# Altium schematic symbol library Logic_RF_Component_Symbols.SchLib: 6 symbols
Pins are listed as number, name and electrical type; pins without a type are passive.

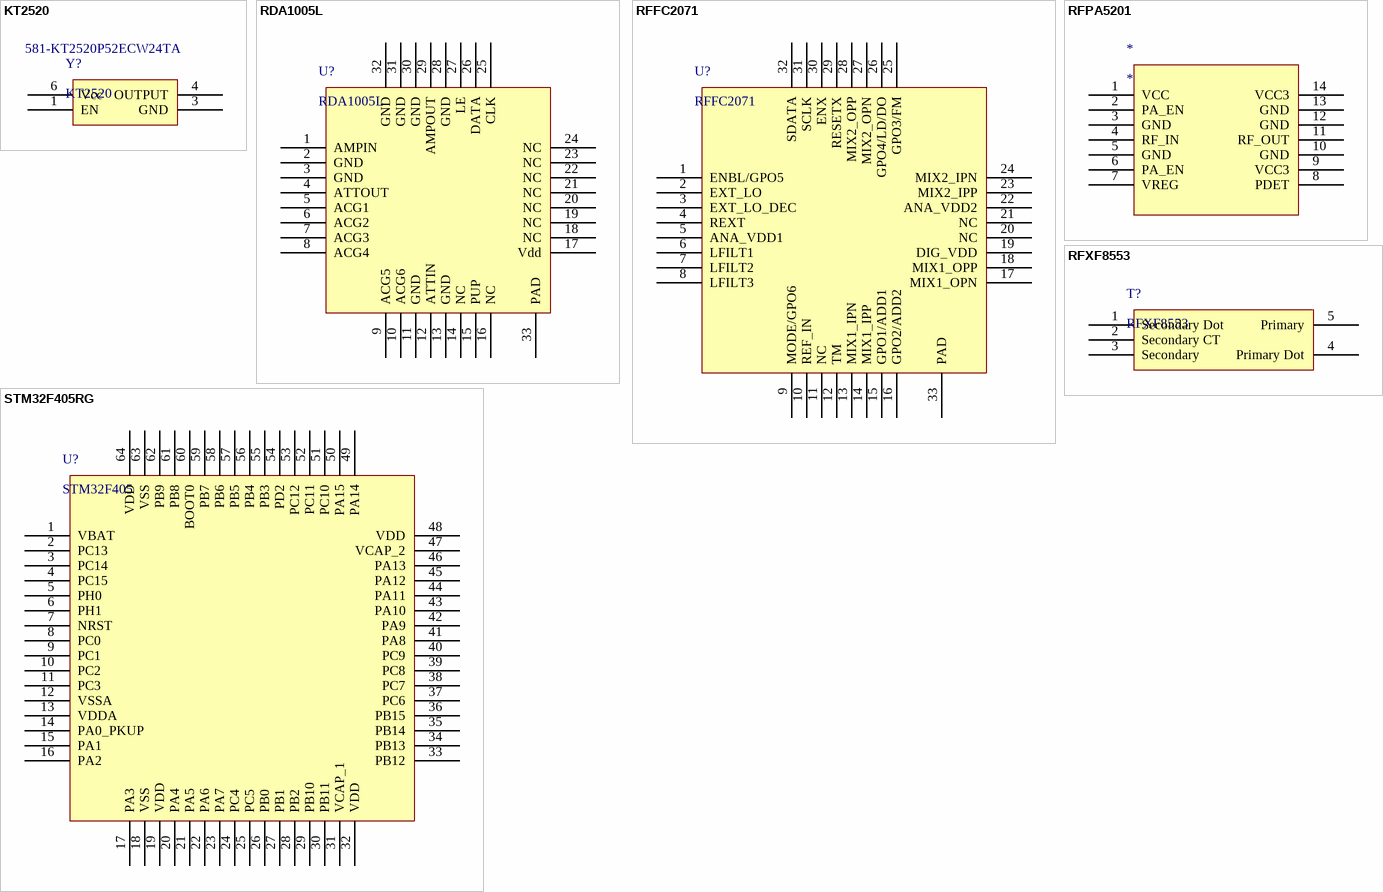
[diagram p0: symbols KT2520 to STM32F405RG]

## KT2520
designator Y?  Supplier Part Number 1: 581-KT2520P52ECW24TA
Temperature-Compensated Crystal Oscillator (TCXO) KT2520; Supplier 1: Mouser
footprint KT2520
pins: 1 EN, 3 GND, 4 OUTPUT, 6 Vcc

## RDA1005L
designator U?
DIGITAL CONTROLLED VARIABLE GAIN  AMPLIFIER 50 MHZ TO 4000 MHZ, 6 BIT
footprint QFN50P500X500-32WAL (QFN, 32-Leads, Body 5x5mm, Pitch 0.5mm, IPC High Density)
footprint QFN50P500X500-32WAN (QFN, 32-Leads, Body 5x5mm, Pitch 0.5mm, IPC Medium Density)
footprint QFN50P500X500-32WAM (QFN, 32-Leads, Body 5x5mm, Pitch 0.5mm, IPC Low Density)
pins: 1 AMPIN, 2 GND, 3 GND, 4 ATTOUT, 5 ACG1, 6 ACG2, 7 ACG3, 8 ACG4, 9 ACG5, 10 ACG6, 11 GND, 12 ATTIN, 13 GND, 14 NC, 15 PUP, 16 NC, 17 Vdd, 18 NC, 19 NC, 20 NC, 21 NC, 22 NC, 23 NC, 24 NC, 25 CLK, 26 DATA, 27 LE, 28 GND, 29 AMPOUT, 30 GND, 31 GND, 32 GND, 33 PAD

## RFFC2071
designator U?
2.7GHz RF SYNTHESIZER/VCO WITH INTEGRATED RF MIXER
footprint QFN50P500X500-32WAL (QFN, 32-Leads, Body 5x5mm, Pitch 0.5mm, IPC High Density)
footprint QFN50P500X500-32WAM (QFN, 32-Leads, Body 5x5mm, Pitch 0.5mm, IPC Low Density)
footprint QFN50P500X500-32WAN (QFN, 32-Leads, Body 5x5mm, Pitch 0.5mm, IPC Medium Density)
pins: 1 ENBL/GPO5, 2 EXT_LO, 3 EXT_LO_DEC, 4 REXT, 5 ANA_VDD1, 6 LFILT1, 7 LFILT2, 8 LFILT3, 9 MODE/GPO6, 10 REF_IN, 11 NC, 12 TM, 13 MIX1_IPN, 14 MIX1_IPP, 15 GPO1/ADD1, 16 GPO2/ADD2, 17 MIX1_OPN, 18 MIX1_OPP, 19 DIG_VDD, 20 NC, 21 NC, 22 ANA_VDD2, 23 MIX2_IPP, 24 MIX2_IPN, 25 GPO3/FM, 26 GPO4/LD/DO, 27 MIX2_OPN, 28 MIX2_OPP, 29 RESETX, 30 ENX, 31 SCLK, 32 SDATA, 33 PAD

## RFPA5201
designator *
WiFi Power Amplifier Module
footprint MCM14
pins: 1 VCC, 2 PA_EN, 3 GND, 4 RF_IN, 5 GND, 6 PA_EN, 7 VREG, 8 PDET, 9 VCC3, 10 GND, 11 RF_OUT, 12 GND, 13 GND, 14 VCC3

## RFXF8553
designator T?
1:4 SMT TRANSFORMER
footprint RFXF8553
pins: 1 Secondary Dot, 2 Secondary CT, 3 Secondary, 4 Primary Dot, 5 Primary

## STM32F405RG
designator U?, comment STM32F405
ARM Cortex-M4 32 bit Microcontroller
footprint SQFP50P1200X1200-64L (Shrink QFP, 64-Leads, Body 10x10mm, Pitch 0.5mm, IPC High Density)
footprint SQFP50P1200X1200-64M (Shrink QFP, 64-Leads, Body 10x10mm, Pitch 0.5mm, IPC Low Density)
footprint SQFP50P1200X1200-64N (Shrink QFP, 64-Leads, Body 10x10mm, Pitch 0.5mm, IPC Medium Density)
pins: 1 VBAT, 2 PC13, 3 PC14, 4 PC15, 5 PH0, 6 PH1, 7 NRST, 8 PC0, 9 PC1, 10 PC2, 11 PC3, 12 VSSA, 13 VDDA, 14 PA0_PKUP, 15 PA1, 16 PA2, 17 PA3, 18 VSS, 19 VDD, 20 PA4, 21 PA5, 22 PA6, 23 PA7, 24 PC4, 25 PC5, 26 PB0, 27 PB1, 28 PB2, 29 PB10, 30 PB11, 31 VCAP_1, 32 VDD, 33 PB12, 34 PB13, 35 PB14, 36 PB15, 37 PC6, 38 PC7, 39 PC8, 40 PC9, 41 PA8, 42 PA9, 43 PA10, 44 PA11, 45 PA12, 46 PA13, 47 VCAP_2, 48 VDD, 49 PA14, 50 PA15, 51 PC10, 52 PC11, 53 PC12, 54 PD2, 55 PB3, 56 PB4, 57 PB5, 58 PB6, 59 PB7, 60 BOOT0, 61 PB8, 62 PB9, 63 VSS, 64 VDD